# EAGLE library part 686108183422 (library Eagle_FPC_CONNECTOR_AND_FFC_CAB (rev18c))
686108183422 WR-FPC 1.00mm SMT Horizontal Top Contact - Low Profile <http://katalog.we-online.de/media/images/v2/Family_WR-FPC_6861xx183422.jpg> Details see: http://katalog.we-online.de/en/em/FPC_1_00_SMT_ZIF_HORIZONTAL_TOP_CONTACT_LOW_PROFILE_6861xx183422 Created by Yingchun,shan 2016 (C) Wurth Elektronik
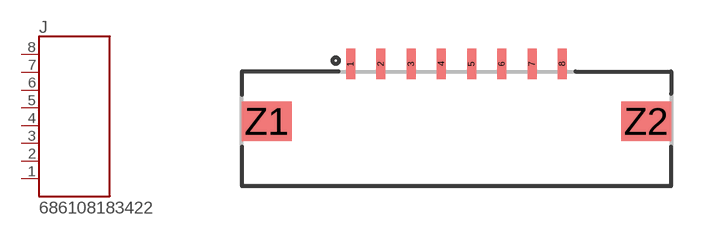
[diagram p148: symbol with the pads of 686108183422; footprint 686108183422]

Designator prefix J

## 686108183422  [686108183422]
1  8  pas
2  7  pas
3  6  pas
4  5  pas
5  4  pas
6  3  pas
7  2  pas
8  1  pas

## Footprint 686108183422 (pad centres in mm)
smd 0.3 x 1: 1 -3.5,1.9; 2 -2.5,1.9; 3 -1.5,1.9; 4 -0.5,1.9; 5 0.5,1.9; 6 1.5,1.9; 7 2.5,1.9; 8 3.5,1.9
smd 1.65 x 1.3: Z1 -6.275,0; Z2 6.275,0